# Altium footprint library OS102011MA1QN1.PcbLib: 1 footprints
Each footprint in its own frame and in the unit in brackets; x right, y up, seen from the top. Pads: shape width x height; smd on the part's side, far side on the other; paste and mask are expansions set on the pad; w line width, h text height; cw(c..) or ccw(c..) is an arc to the next point about the centre after c.
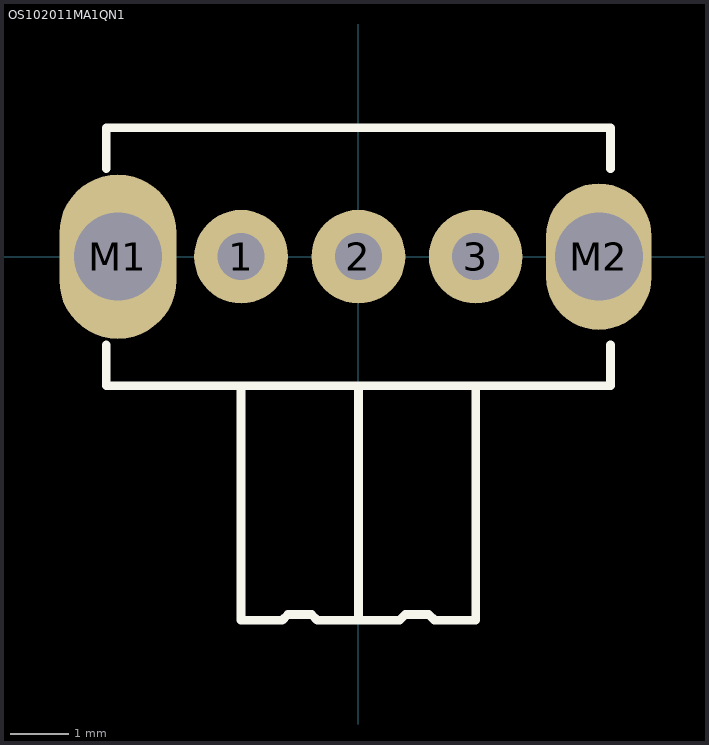
[diagram p0: the footprint, top view; thin cyan lines are the x and y axes]

## OS102011MA1QN1 [mm]
pads (5):
  round 1.6 hole 0.8: 1(-2,0) 2(0,0) 3(2,0)
  oval 2x2.8 / inner round 2 / far side oval 2x2.8 hole 1.5: M1(-4.1,0)
  oval 1.8x2.5 / inner oval 1.8x2 / far side oval 1.8x2.5 hole 1.5: M2(4.1,0)
Top Overlay:
  lines w0.15: -4.3,-1.5 -4.3,-2.2 4.3,-2.2 4.3,-1.5 ; -4.3,1.5 -4.3,2.2 0,2.2 4.3,2.2 4.3,1.5 ; -2,-2.2 -2,-6.2 -1.3,-6.2 -1.2,-6.1 -1,-6.1 -0.8,-6.1 -0.7,-6.2 0,-6.2 ; 0,-2.2 0,-6.2 ; 2,-2.2 2,-6.2 1.3,-6.2 1.2,-6.1 1,-6.1 0.8,-6.1 0.7,-6.2 0,-6.2